# Altium schematic symbol library Power_Mux.SchLib: 6 symbols
Pins are listed as number, name and electrical type; pins without a type are passive.

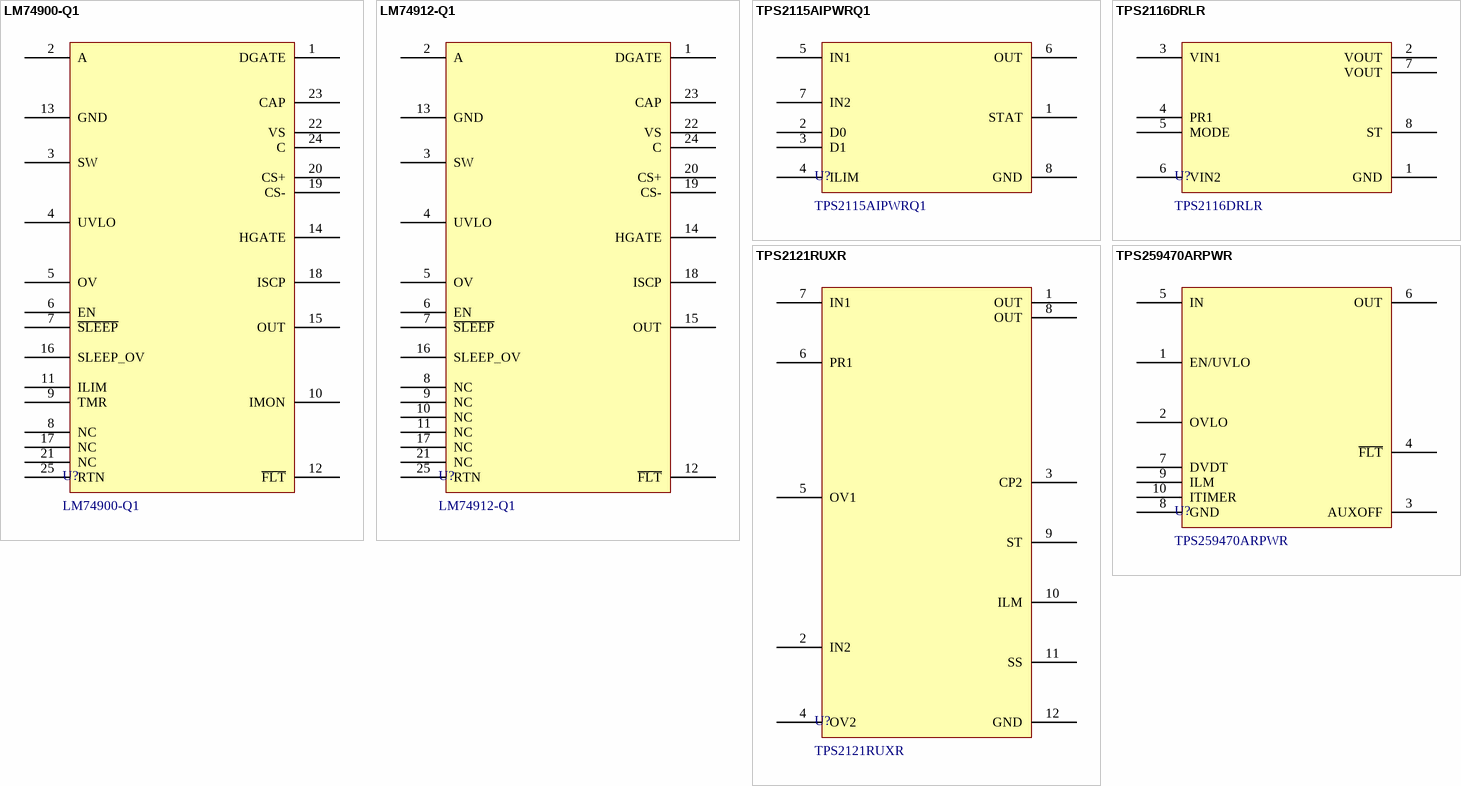
[diagram p0: symbols LM74900-Q1 to TPS259470ARPWR]

## LM74900-Q1
designator U?
Automotive ideal diode with circuit breaker, under- and overvoltage protection with fault output; Manufacturer: Texas Instruments; Input Voltage: 3-65 V; Number of channels: 1; Active status: Active; Device Type: Ideal diode controller; FET: External back-to-back FET; Output Current: N/A; Output Voltage: 3-65 V; Package / Case: VQFN-24; Current limit max: N/A; Ron: N/A; Supplier 1 URL: N/A; Supplier 2 URL: N/A; Supplier 3 URL: N/A; Value: N/A; Manufacturer Part Number: LM74900-Q1; Mount: SMD/SMT; Operating Temperature Max: + 85 C; Operating Temperature Min: - 40 C; Packaging: Tape and Reel; Supplier 1: Mouser; Supplier 1 Part Number: 595-LM74900QRGERQ1; Supplier 2: Digi-Key; Supplier 2 Part Number: 296-LM74900QRGERQ1TR-ND; Supplier 3: thegioiic; Supplier 3 Part Number: N/A; ComponentLink1Description: Datasheet; ComponentLink1URL: https://www.ti.com/lit/gpn/lm74900-q1
footprint LM74900-Q1 (QFN, 24-Leads, Body 4.00x4.00mm, Pitch 0.50mm, Thermal Pad 2.10x2.10mm, IPC Medium Density)
pins: 1 DGATE, 2 A, 3 SW, 4 UVLO, 5 OV, 6 EN, 7 ~{SLEEP}, 8 NC, 9 TMR, 10 IMON, 11 ILIM, 12 ~{FLT}, 13 GND, 14 HGATE, 15 OUT, 16 SLEEP_OV, 17 NC, 18 ISCP, 19 CS-, 20 CS+, 21 NC, 22 VS, 23 CAP, 24 C, 25 RTN

## LM74912-Q1
designator U?
Automotive ideal diode with integrated over-voltage and short circuit protection w/ fault output; Manufacturer: Texas Instruments; Input Voltage: 3-65 V; Number of channels: 1; Active status: Active; Device Type: Ideal diode controller; FET: External back-to-back FET; Output Current: N/A; Output Voltage: 3-65 V; Package / Case: VQFN-24; Current limit max: N/A; Ron: N/A; Supplier 1 URL: N/A; Supplier 2 URL: N/A; Supplier 3 URL: N/A; Value: N/A; Manufacturer Part Number: LM74912-Q1; Mount: SMD/SMT; Operating Temperature Max: + 85 C; Operating Temperature Min: - 40 C; Packaging: Tape and Reel; Supplier 1: Mouser; Supplier 1 Part Number: N/A; Supplier 2: Digi-Key; Supplier 2 Part Number: N/A; Supplier 3: thegioiic; Supplier 3 Part Number: N/A; ComponentLink1Description: Datasheet; ComponentLink1URL: https://www.ti.com/lit/gpn/lm74912-q1
footprint LM74912-Q1 (QFN, 24-Leads, Body 4.00x4.00mm, Pitch 0.50mm, Thermal Pad 2.10x2.10mm, IPC Medium Density)
pins: 1 DGATE, 2 A, 3 SW, 4 UVLO, 5 OV, 6 EN, 7 ~{SLEEP}, 8 NC, 9 NC, 10 NC, 11 NC, 12 ~{FLT}, 13 GND, 14 HGATE, 15 OUT, 16 SLEEP_OV, 17 NC, 18 ISCP, 19 CS-, 20 CS+, 21 NC, 22 VS, 23 CAP, 24 C, 25 RTN

## TPS2115AIPWRQ1
designator U?
2.8-V to 5.5-V, 84-mΩ, 1.25-A, automotive power mux with manual, automatic switchover; Manufacturer: Texas Instruments; Input Voltage: 2.8-5.5V; Number of channels: 1; Output Current: 1.25A; Active status: Active; FET: Internal; Ron: 84 mOhm; Output Voltage: 2.8-5.5V; Package / Case: TSSOP-8; Current limit max: 1.25A; Device Type: Power MUX; Supplier 1 URL: N/A; Supplier 2 URL: N/A; Supplier 3 URL: N/A; Value: TPS2115AIPWRQ1; Manufacturer Part Number: TPS2115AIPWRQ1; Mount: SMD/SMT; Operating Temperature Max: + 85 C; Operating Temperature Min: - 40 C; Packaging: Tape and Reel; Supplier 1: Mouser; Supplier 1 Part Number: 595-TPS2115AIPWRQ1; Supplier 2: Digi-Key; Supplier 2 Part Number: 296-24155-2-ND; Supplier 3: thegioiic; Supplier 3 Part Number: N/A; ComponentLink1Description: Datasheet; ComponentLink1URL: https://www.ti.com/lit/gpn/TPS2115A-Q1
footprint TPS2115AIPWRQ1 (TSOP, 8-Leads, Body 3.00x4.40mm, Pitch 0.65mm, IPC Medium Density)
pins: 1 STAT, 2 D0, 3 D1, 4 ILIM, 5 IN1, 6 OUT, 7 IN2, 8 GND

## TPS2116DRLR
designator U?
1.6-V to 5.5-V, 40-mOhm, 2.5-A, low-IQ, priority power multiplexer; Manufacturer: Texas Instruments; Input Voltage: 1.6-5.5V; Number of channels: 1; Output Current: 2.5A; Active status: Active; Device Type: Power MUX; FET: Internal; Ron: 40 mOhm; Output Voltage: 1.6-5.5V; Package / Case: SOT-5X3-8; Current limit max: 2.5A; Supplier 1 URL: N/A; Supplier 2 URL: N/A; Supplier 3 URL: N/A; Value: TPS2116DRLR; Manufacturer Part Number: TPS2116DRLR; Mount: SMD/SMT; Operating Temperature Max: + 85 C; Operating Temperature Min: - 40 C; Packaging: Tape and Reel; Supplier 1: Mouser; Supplier 1 Part Number: 595-TPS2116DRLR; Supplier 2: Digi-Key; Supplier 2 Part Number: 296-TPS2116DRLRTR-ND; Supplier 3: thegioiic; Supplier 3 Part Number: N/A; ComponentLink1Description: Datasheet; ComponentLink1URL: https://www.ti.com/lit/gpn/TPS2116
footprint TPS2116DRLR (SON, 8-Leads, Body 2.10x1.60mm, Pitch 0.50mm, IPC Medium Density)
pins: 1 GND, 2 VOUT, 3 VIN1, 4 PR1, 5 MODE, 6 VIN2, 7 VOUT, 8 ST

## TPS2121RUXR
designator U?
2.7-V to 22-V, 56-mΩ, 4.5-A, power mux with seamless switchover; Manufacturer: Texas Instruments; Input Voltage: 2.7-22V; Number of channels: 1; Output Current: 4.5A; Active status: Active; FET: Internal; Ron: 56 mOhm; Output Voltage: 2.7-22V; Package / Case: VQFN-12; Current limit max: 4.5A; Device Type: Power MUX; Supplier 1 URL: N/A; Supplier 2 URL: N/A; Supplier 3 URL: N/A; Value: TPS2121RUXR; Manufacturer Part Number: TPS2121RUXR; Mount: SMD/SMT; Operating Temperature Max: + 85 C; Operating Temperature Min: - 40 C; Packaging: Tape and Reel; Supplier 1: Mouser; Supplier 1 Part Number: 595-TPS2121RUXR; Supplier 2: Digi-Key; Supplier 2 Part Number: 296-53410-2-ND; Supplier 3: thegioiic; Supplier 3 Part Number: N/A; ComponentLink1Description: Datasheet; ComponentLink1URL: https://www.ti.com/lit/gpn/tps2121
footprint TPS2121RUXR (QFN, 12-Leads, Body 2.00x2.50mm, Pitch 0.50mm/0.70mm, IPC Medium Density)
pins: 1 OUT, 2 IN2, 3 CP2, 4 OV2, 5 OV1, 6 PR1, 7 IN1, 8 OUT, 9 ST, 10 ILM, 11 SS, 12 GND

## TPS259470ARPWR
designator U?
2.7-V to 23-V, 28-mΩ, 5.5-A eFuse with integrated reverse polarity protection; Manufacturer: Texas Instruments; Input Voltage: 2.7-23V; Number of channels: 1; Output Current: 6A; Active status: Active; Device Type: eFuses and hot swap controllers; FET: Internal; Ron: 28 mOhm; Output Voltage: 2.7-23V; Package / Case: VQFN-10; Current limit max: 6A; Supplier 1 URL: N/A; Supplier 2 URL: N/A; Supplier 3 URL: N/A; Value: TPS259470ARPWR; Manufacturer Part Number: TPS259470ARPWR; Mount: SMD/SMT; Operating Temperature Max: + 85 C; Operating Temperature Min: - 40 C; Packaging: Tape and Reel; Supplier 1: Mouser; Supplier 1 Part Number: 595-TPS259470ARPWR; Supplier 2: Digi-Key; Supplier 2 Part Number: 296-TPS259470ARPWRTR-ND; Supplier 3: thegioiic; Supplier 3 Part Number: N/A; ComponentLink1Description: Datasheet; ComponentLink1URL: https://www.ti.com/general/docs/suppproductinfo.tsp?distId=26&gotoUrl=https://www.ti.com/lit/gpn/tps25947
footprint TPS259470ARPWR (QFN, 16-Leads, Body 2.00x2.00mm, Pitch 0.50mm, IPC Medium Density)
pins: 1 EN/UVLO, 2 OVLO, 3 AUXOFF, 4 ~{FLT}, 5 IN, 6 OUT, 7 DVDT, 8 GND, 9 ILM, 10 ITIMER